# Altium schematic symbol library ref2930aid.SchLib: 1 symbol
Pins are listed as number, name and electrical type; pins without a type are passive.

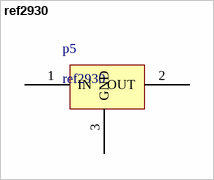
[diagram p0: symbol ref2930]

## ref2930
designator p5
pins: 1 IN, 2 OUT, 3 GND